# Altium integrated library TI Logic Latch.IntLib: 771 symbols (part 14 of 18)
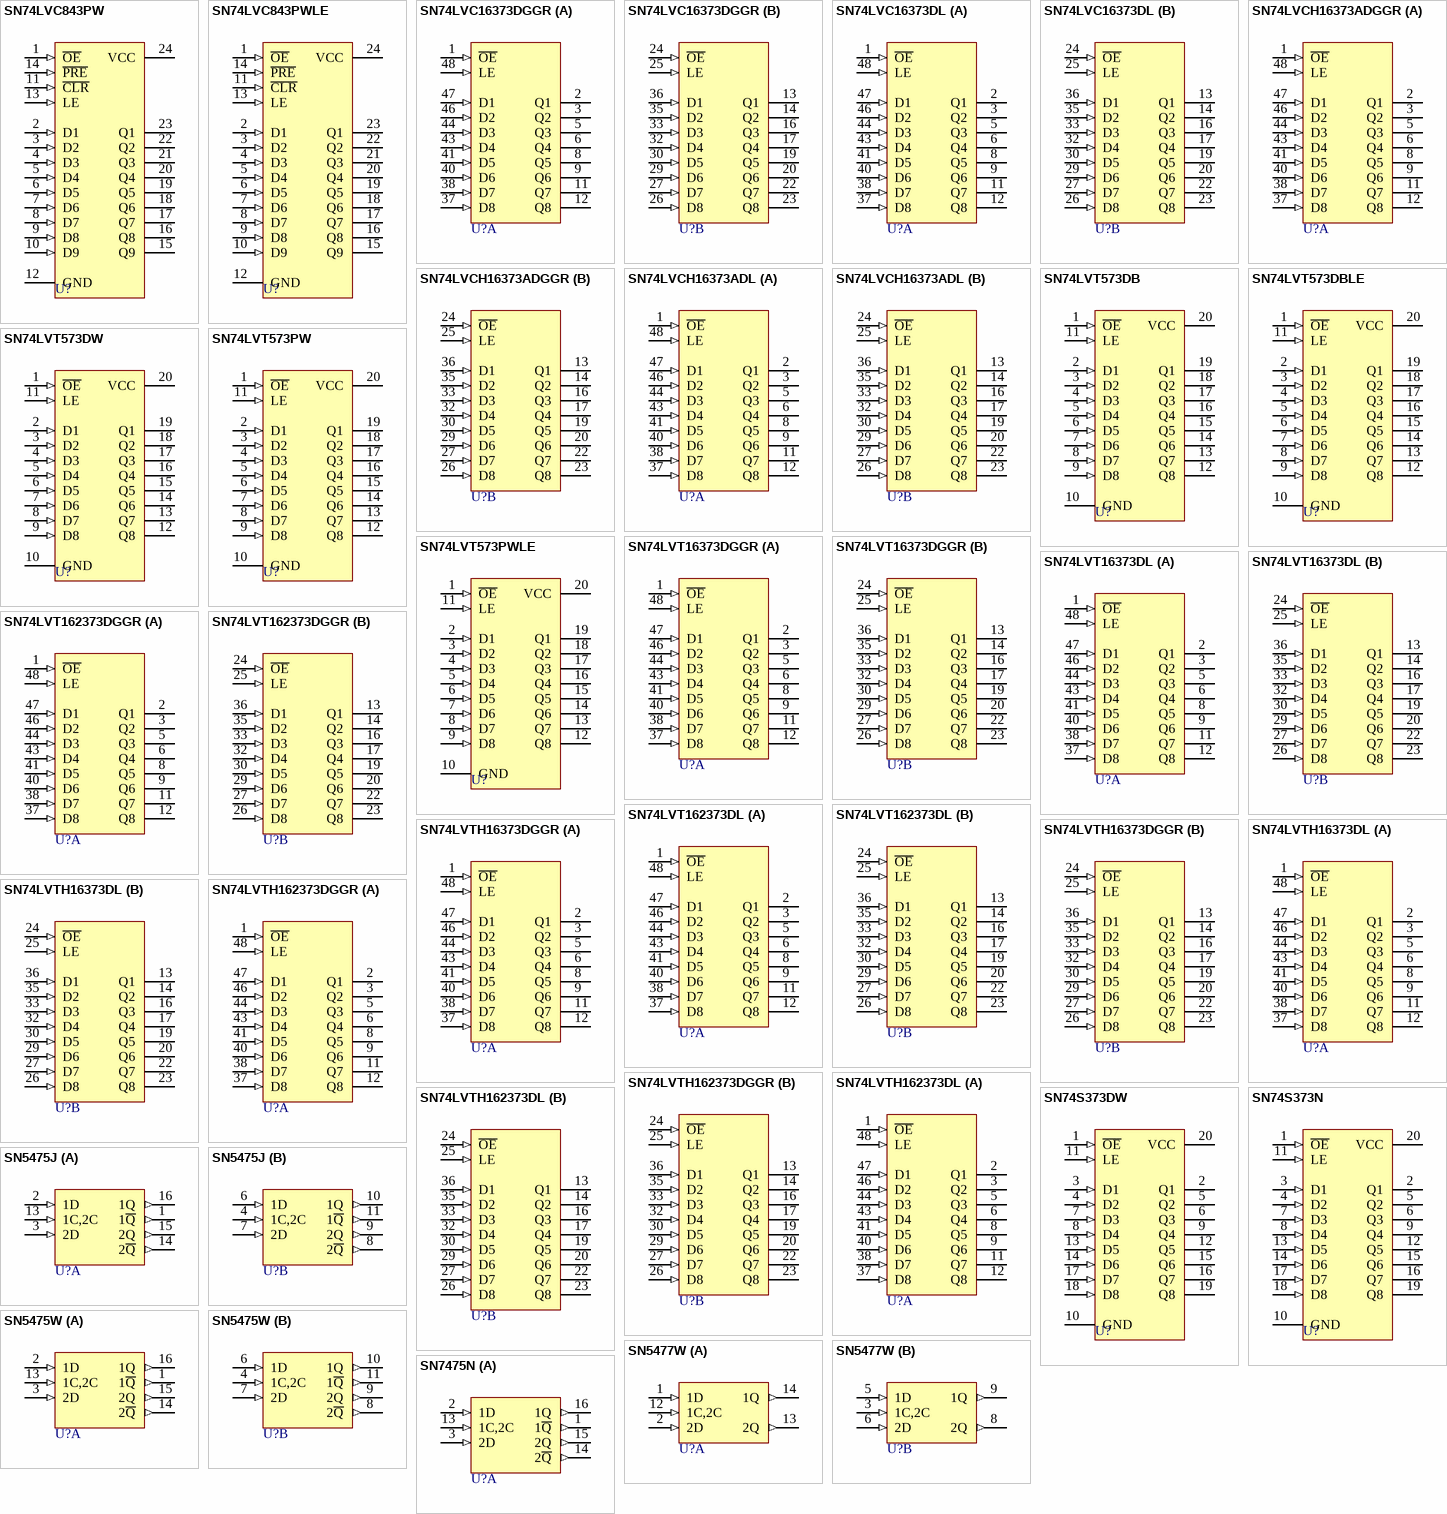
[diagram p39: symbols SN74LVC843PW to SN7475N]

## SN74S373DW
designator U?
Octal D-Type Transparent Latches and Edge-Triggered Flip-Flops; Published: 8-Jun-2000; LatestRevisionDate: 13-Apr-2006; LatestRevisionNote: IPC-7351 Footprint Added.; DatasheetVersion: Mar-1988; PackageVersion: Mar-2000; PackageReference: DW020; Publisher: Altium Limited; PackageDescription: 20-Pin Plastic Small Outline Integrated Circuit 1.27 mm Pitch; Code_JEDEC: MS-013; Code_IPC: SOIC127P1030-20; ComponentLink1Description: Manufacturer Link; ComponentLink1URL: http://www.ti.com/; ComponentLink2Description: Datasheet; ComponentLink2URL: http://www-s.ti.com/sc/ds/sn74s373.pdf
footprint DW020_N (SOIC, 20-Leads, Body 12.8x7.5mm, Pitch 1.27mm, IPC Medium Density)
footprint DW020_L (SOIC, 20-Leads, Body 12.8x7.5mm, Pitch 1.27mm, IPC High Density)
footprint DW020_M (SOIC, 20-Leads, Body 12.8x7.5mm, Pitch 1.27mm, IPC Low Density)
3D model DW020 (20-Pin Plastic Small Outline Integrated Circuit 1.27 mm Pitch)
signal-integrity model SN74S373DW
pins: 1 ~{OE} (in), 2 Q1 (hiz), 3 D1 (in), 4 D2 (in), 5 Q2 (hiz), 6 Q3 (hiz), 7 D3 (in), 8 D4 (in), 9 Q4 (hiz), 10 GND (power), 11 LE (in), 12 Q5 (hiz), 13 D5 (in), 14 D6 (in), 15 Q6 (hiz), 16 Q7 (hiz), 17 D7 (in), 18 D8 (in), 19 Q8 (hiz), 20 VCC (power)

## SN74S373N
designator U?
Octal D-Type Transparent Latches and Edge-Triggered Flip-Flops; Published: 8-Jun-2000; LatestRevisionDate: 04-Mar-2005; LatestRevisionNote: Stylized 3D Model Added.; DatasheetVersion: Mar-1988; PackageVersion: Oct-1995; PackageReference: N020; Publisher: Altium Limited; PackageDescription: DIP; 20 Leads; Row Spacing 7.62 mm; Pitch 2.54 mm; ComponentLink1Description: Manufacturer Link; ComponentLink1URL: http://www.ti.com/; ComponentLink2Description: Datasheet; ComponentLink2URL: http://www-s.ti.com/sc/ds/sn74s373.pdf
footprint N020 (DIP; 20 Leads; Row Spacing 7.62 mm; Pitch 2.54 mm)
3D model J020 (DIP; 20 Leads; Row Spacing 7.62 mm; Pitch 2.54 mm)
signal-integrity model SN74S373N
pins: 1 ~{OE} (in), 2 Q1 (hiz), 3 D1 (in), 4 D2 (in), 5 Q2 (hiz), 6 Q3 (hiz), 7 D3 (in), 8 D4 (in), 9 Q4 (hiz), 10 GND (power), 11 LE (in), 12 Q5 (hiz), 13 D5 (in), 14 D6 (in), 15 Q6 (hiz), 16 Q7 (hiz), 17 D7 (in), 18 D8 (in), 19 Q8 (hiz), 20 VCC (power)

## SN5475J
designator U?
4-Bit Bistable Latches; Published: 8-Jun-2000; LatestRevisionDate: 04-Mar-2005; LatestRevisionNote: Stylized 3D Model Added.; DatasheetVersion: Mar-1988; PackageVersion: Jun-1999; PackageReference: J016; Publisher: Altium Limited; PackageDescription: DIP; 16 Leads; Row Spacing 7.62 mm; Pitch 2.54 mm; ComponentLink1Description: Manufacturer Link; ComponentLink1URL: http://www.ti.com/; ComponentLink2Description: Datasheet; ComponentLink2URL: http://www-s.ti.com/sc/ds/sn54ls75.pdf
footprint J016 (DIP; 16 Leads; Row Spacing 7.62 mm; Pitch 2.54 mm)
3D model J016 (DIP; 16 Leads; Row Spacing 7.62 mm; Pitch 2.54 mm)
signal-integrity model SN5475J
pins on every part: 5 VCC (power) hidden to VCC, 12 GND (power) hidden to GND
part A pins: 1 1~{Q} (out), 2 1D (in), 3 2D (in), 13 1C,2C (in), 14 2~{Q} (out), 15 2Q (out), 16 1Q (out)
part B pins: 4 1C,2C (in), 6 1D (in), 7 2D (in), 8 2~{Q} (out), 9 2Q (out), 10 1Q (out), 11 1~{Q} (out)

## SN5475W
designator U?
4-Bit Bistable Latches; Published: 8-Jun-2000; LatestRevisionDate: 04-Mar-2005; LatestRevisionNote: Stylized 3D Model Added.; DatasheetVersion: Mar-1988; PackageVersion: Jan-1995; PackageReference: W016; Publisher: Altium Limited; PackageDescription: DFP; 16 Leads; Body 10.9 x 7.2 mm (LxW max); Pitch 1.27 mm; Code_JEDEC: MO-092-AC; ComponentLink1Description: Manufacturer Link; ComponentLink1URL: http://www.ti.com/; ComponentLink2Description: Datasheet; ComponentLink2URL: http://www-s.ti.com/sc/ds/sn54ls75.pdf
footprint W016 (DFP; 16 Leads; Body 10.9 x 7.2 mm (LxW max); Pitch 1.27 mm)
3D model W016 (DFP; 16 Leads; Body 10.9 x 7.2 mm (LxW max); Pitch 1.27 mm)
signal-integrity model SN5475W
pins on every part: 5 VCC (power) hidden to VCC, 12 GND (power) hidden to GND
part A pins: 1 1~{Q} (out), 2 1D (in), 3 2D (in), 13 1C,2C (in), 14 2~{Q} (out), 15 2Q (out), 16 1Q (out)
part B pins: 4 1C,2C (in), 6 1D (in), 7 2D (in), 8 2~{Q} (out), 9 2Q (out), 10 1Q (out), 11 1~{Q} (out)

## SN5477W
designator U?
4-Bit Bistable Latches; Note: Pins No 7 and 10 are Not Connected; Published: 8-Jun-2000; LatestRevisionDate: 04-Mar-2005; LatestRevisionNote: Stylized 3D Model Added.; DatasheetVersion: Mar-1988; PackageVersion: Jan-1995; PackageReference: W014; Publisher: Altium Limited; PackageDescription: DFP; 14 Leads; Body 9.9 x 6.6 mm (LxW max); Pitch 1.27 mm; Code_JEDEC: MO-092-AB; ComponentLink1Description: Manufacturer Link; ComponentLink1URL: http://www.ti.com/; ComponentLink2Description: Datasheet; ComponentLink2URL: http://www-s.ti.com/sc/ds/sn54ls75.pdf
footprint W014 (DFP; 14 Leads; Body 9.9 x 6.6 mm (LxW max); Pitch 1.27 mm)
3D model W014 (DFP; 14 Leads; Body 9.9 x 6.6 mm (LxW max); Pitch 1.27 mm)
signal-integrity model SN5477W
pins on every part: 4 VCC (power) hidden to VCC, 11 GND (power) hidden to GND
part A pins: 1 1D (in), 2 2D (in), 12 1C,2C (in), 13 2Q (out), 14 1Q (out)
part B pins: 3 1C,2C (in), 5 1D (in), 6 2D (in), 8 2Q (out), 9 1Q (out)

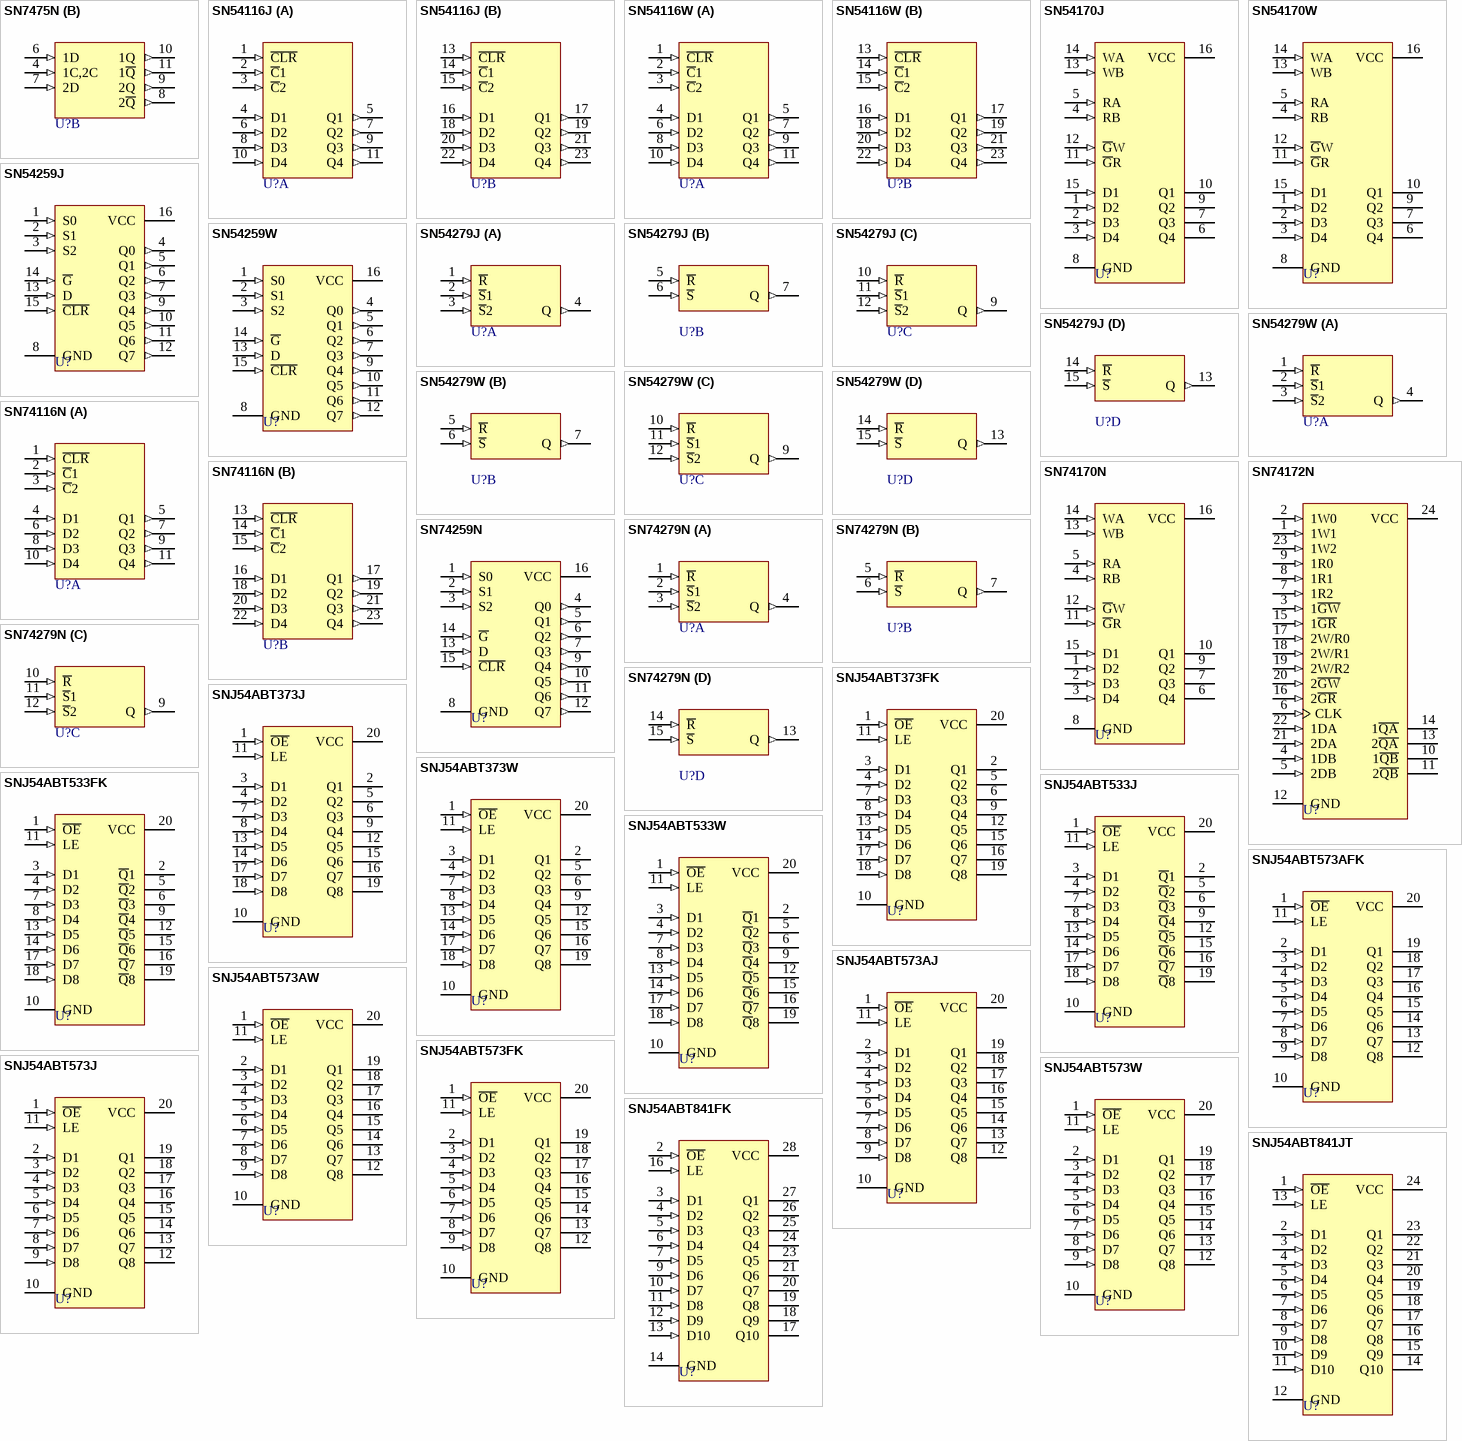
[diagram p20: symbols SN7475N to SNJ54ABT841JT]

## SN7475N
designator U?
4-Bit Bistable Latches; Published: 8-Jun-2000; LatestRevisionDate: 04-Mar-2005; LatestRevisionNote: Stylized 3D Model Added.; DatasheetVersion: Mar-1988; PackageVersion: Oct-1995; PackageReference: N016; Publisher: Altium Limited; PackageDescription: DIP; 16 Leads; Row Spacing 7.62 mm; Pitch 2.54 mm; Code_JEDEC: MS-001-BB; ComponentLink1Description: Manufacturer Link; ComponentLink1URL: http://www.ti.com/; ComponentLink2Description: Datasheet; ComponentLink2URL: http://www-s.ti.com/sc/ds/sn54ls75.pdf
footprint N016 (DIP; 16 Leads; Row Spacing 7.62 mm; Pitch 2.54 mm)
3D model N016 (DIP; 16 Leads; Row Spacing 7.62 mm; Pitch 2.54 mm)
signal-integrity model SN7475N
pins on every part: 5 VCC (power) hidden to VCC, 12 GND (power) hidden to GND
part A pins: 1 1~{Q} (out), 2 1D (in), 3 2D (in), 13 1C,2C (in), 14 2~{Q} (out), 15 2Q (out), 16 1Q (out)
part B pins: 4 1C,2C (in), 6 1D (in), 7 2D (in), 8 2~{Q} (out), 9 2Q (out), 10 1Q (out), 11 1~{Q} (out)

## SN54116J
designator U?
Dual 4-Bit Latches with Clear; Published: 8-Jun-2000; LatestRevisionDate: 04-Mar-2005; LatestRevisionNote: Stylized 3D Model Added.; DatasheetVersion: Mar-1988; PackageVersion: Nov-1997; PackageReference: J024; Publisher: Altium Limited; PackageDescription: DIP; 24 Leads; Row Spacing 15.24 mm; Pitch 2.54 mm; ComponentLink1Description: Manufacturer Link; ComponentLink1URL: http://www.ti.com/; ComponentLink2Description: Datasheet; ComponentLink2URL: http://www-s.ti.com/sc/ds/sn74116.pdf
footprint J024 (DIP; 24 Leads; Row Spacing 15.24 mm; Pitch 2.54 mm)
3D model J024 (DIP; 24 Leads; Row Spacing 15.24 mm; Pitch 2.54 mm)
signal-integrity model SN54116J
pins on every part: 12 GND (power) hidden to GND, 24 VCC (power) hidden to VCC
part A pins: 1 ~{CLR} (in), 2 ~{C}1 (in), 3 ~{C}2 (in), 4 D1 (in), 5 Q1 (out), 6 D2 (in), 7 Q2 (out), 8 D3 (in), 9 Q3 (out), 10 D4 (in), 11 Q4 (out)
part B pins: 13 ~{CLR} (in), 14 ~{C}1 (in), 15 ~{C}2 (in), 16 D1 (in), 17 Q1 (out), 18 D2 (in), 19 Q2 (out), 20 D3 (in), 21 Q3 (out), 22 D4 (in), 23 Q4 (out)

## SN54116W
designator U?
Dual 4-Bit Latches with Clear; Published: 8-Jun-2000; LatestRevisionDate: 04-Mar-2005; LatestRevisionNote: Stylized 3D Model Added.; DatasheetVersion: Mar-1988; PackageVersion: Oct-1994; PackageReference: W024; Publisher: Altium Limited; PackageDescription: DFP; 24 Leads; Body 16.3 x 9.5 mm (LxW max); Pitch 1.27 mm; Code_JEDEC: MO-070-AD; ComponentLink1Description: Manufacturer Link; ComponentLink1URL: http://www.ti.com/; ComponentLink2Description: Datasheet; ComponentLink2URL: http://www-s.ti.com/sc/ds/sn74116.pdf
footprint W024 (DFP; 24 Leads; Body 16.3 x 9.5 mm (LxW max); Pitch 1.27 mm)
3D model W024 (DFP; 24 Leads; Body 16.3 x 9.5 mm (LxW max); Pitch 1.27 mm)
signal-integrity model SN54116W
pins on every part: 12 GND (power) hidden to GND, 24 VCC (power) hidden to VCC
part A pins: 1 ~{CLR} (in), 2 ~{C}1 (in), 3 ~{C}2 (in), 4 D1 (in), 5 Q1 (out), 6 D2 (in), 7 Q2 (out), 8 D3 (in), 9 Q3 (out), 10 D4 (in), 11 Q4 (out)
part B pins: 13 ~{CLR} (in), 14 ~{C}1 (in), 15 ~{C}2 (in), 16 D1 (in), 17 Q1 (out), 18 D2 (in), 19 Q2 (out), 20 D3 (in), 21 Q3 (out), 22 D4 (in), 23 Q4 (out)

## SN54170J
designator U?
4-By-4 Rigister Files with Open-Collector Outputs; Published: 8-Jun-2000; LatestRevisionDate: 04-Mar-2005; LatestRevisionNote: Stylized 3D Model Added.; DatasheetVersion: Mar-1988; PackageVersion: Jun-1999; PackageReference: J016; Publisher: Altium Limited; PackageDescription: DIP; 16 Leads; Row Spacing 7.62 mm; Pitch 2.54 mm; ComponentLink1Description: Manufacturer Link; ComponentLink1URL: http://www.ti.com/; ComponentLink2Description: Datasheet; ComponentLink2URL: http://www-s.ti.com/sc/ds/sn54ls170.pdf
footprint J016 (DIP; 16 Leads; Row Spacing 7.62 mm; Pitch 2.54 mm)
3D model J016 (DIP; 16 Leads; Row Spacing 7.62 mm; Pitch 2.54 mm)
signal-integrity model SN54170J
pins: 1 D2 (in), 2 D3 (in), 3 D4 (in), 4 RB (in), 5 RA (in), 6 Q4 (oc), 7 Q3 (oc), 8 GND (power), 9 Q2 (oc), 10 Q1 (oc), 11 ~{G}R (in), 12 ~{G}W (in), 13 WB (in), 14 WA (in), 15 D1 (in), 16 VCC (power)

## SN54170W
designator U?
4-By-4 Rigister Files with Open-Collector Outputs; Published: 8-Jun-2000; LatestRevisionDate: 04-Mar-2005; LatestRevisionNote: Stylized 3D Model Added.; DatasheetVersion: Mar-1988; PackageVersion: Jan-1995; PackageReference: W016; Publisher: Altium Limited; PackageDescription: DFP; 16 Leads; Body 10.9 x 7.2 mm (LxW max); Pitch 1.27 mm; Code_JEDEC: MO-092-AC; ComponentLink1Description: Manufacturer Link; ComponentLink1URL: http://www.ti.com/; ComponentLink2Description: Datasheet; ComponentLink2URL: http://www-s.ti.com/sc/ds/sn54ls170.pdf
footprint W016 (DFP; 16 Leads; Body 10.9 x 7.2 mm (LxW max); Pitch 1.27 mm)
3D model W016 (DFP; 16 Leads; Body 10.9 x 7.2 mm (LxW max); Pitch 1.27 mm)
signal-integrity model SN54170W
pins: 1 D2 (in), 2 D3 (in), 3 D4 (in), 4 RB (in), 5 RA (in), 6 Q4 (oc), 7 Q3 (oc), 8 GND (power), 9 Q2 (oc), 10 Q1 (oc), 11 ~{G}R (in), 12 ~{G}W (in), 13 WB (in), 14 WA (in), 15 D1 (in), 16 VCC (power)

## SN54259J
designator U?
8-Bit Addressable Latch; Published: 8-Jun-2000; LatestRevisionDate: 04-Mar-2005; LatestRevisionNote: Stylized 3D Model Added.; DatasheetVersion: Mar-1988; PackageVersion: Jun-1999; PackageReference: J016; Publisher: Altium Limited; PackageDescription: DIP; 16 Leads; Row Spacing 7.62 mm; Pitch 2.54 mm; ComponentLink1Description: Manufacturer Link; ComponentLink1URL: http://www.ti.com/; ComponentLink2Description: Datasheet; ComponentLink2URL: http://www-s.ti.com/sc/ds/sn74259.pdf
footprint J016 (DIP; 16 Leads; Row Spacing 7.62 mm; Pitch 2.54 mm)
3D model J016 (DIP; 16 Leads; Row Spacing 7.62 mm; Pitch 2.54 mm)
signal-integrity model SN54259J
pins: 1 S0 (in), 2 S1 (in), 3 S2 (in), 4 Q0 (out), 5 Q1 (out), 6 Q2 (out), 7 Q3 (out), 8 GND (power), 9 Q4 (out), 10 Q5 (out), 11 Q6 (out), 12 Q7 (out), 13 D (in), 14 ~{G} (in), 15 ~{CLR} (in), 16 VCC (power)

## SN54259W
designator U?
8-Bit Addressable Latch; Published: 8-Jun-2000; LatestRevisionDate: 04-Mar-2005; LatestRevisionNote: Stylized 3D Model Added.; DatasheetVersion: Mar-1988; PackageVersion: Jan-1995; PackageReference: W016; Publisher: Altium Limited; PackageDescription: DFP; 16 Leads; Body 10.9 x 7.2 mm (LxW max); Pitch 1.27 mm; Code_JEDEC: MO-092-AC; ComponentLink1Description: Manufacturer Link; ComponentLink1URL: http://www.ti.com/; ComponentLink2Description: Datasheet; ComponentLink2URL: http://www-s.ti.com/sc/ds/sn74259.pdf
footprint W016 (DFP; 16 Leads; Body 10.9 x 7.2 mm (LxW max); Pitch 1.27 mm)
3D model W016 (DFP; 16 Leads; Body 10.9 x 7.2 mm (LxW max); Pitch 1.27 mm)
signal-integrity model SN54259W
pins: 1 S0 (in), 2 S1 (in), 3 S2 (in), 4 Q0 (out), 5 Q1 (out), 6 Q2 (out), 7 Q3 (out), 8 GND (power), 9 Q4 (out), 10 Q5 (out), 11 Q6 (out), 12 Q7 (out), 13 D (in), 14 ~{G} (in), 15 ~{CLR} (in), 16 VCC (power)

## SN54279J
designator U?
Quadruple S-R Latches; ComponentAvailability: Obsolete; Published: 8-Jun-2000; LatestRevisionDate: 04-Mar-2005; LatestRevisionNote: Stylized 3D Model Added.; DatasheetVersion: Mar-1988; PackageVersion: Jun-1999; PackageReference: J016; Publisher: Altium Limited; PackageDescription: DIP; 16 Leads; Row Spacing 7.62 mm; Pitch 2.54 mm; ComponentLink1Description: Manufacturer Link; ComponentLink1URL: http://www.ti.com/; ComponentLink2Description: Datasheet; ComponentLink2URL: http://www-s.ti.com/sc/ds/sn54279.pdf
footprint J016 (DIP; 16 Leads; Row Spacing 7.62 mm; Pitch 2.54 mm)
3D model J016 (DIP; 16 Leads; Row Spacing 7.62 mm; Pitch 2.54 mm)
signal-integrity model SN54279J
pins on every part: 8 GND (power) hidden to GND, 16 VCC (power) hidden to VCC
part A pins: 1 ~{R} (in), 2 ~{S}1 (in), 3 ~{S}2 (in), 4 Q (out)
part B pins: 5 ~{R} (in), 6 ~{S} (in), 7 Q (out)
part C pins: 9 Q (out), 10 ~{R} (in), 11 ~{S}1 (in), 12 ~{S}2 (in)
part D pins: 13 Q (out), 14 ~{R} (in), 15 ~{S} (in)

## SN54279W
designator U?
Quadruple S-R Latches; Published: 8-Jun-2000; LatestRevisionDate: 04-Mar-2005; LatestRevisionNote: Stylized 3D Model Added.; DatasheetVersion: Mar-1988; PackageVersion: Jan-1995; PackageReference: W016; Publisher: Altium Limited; PackageDescription: DFP; 16 Leads; Body 10.9 x 7.2 mm (LxW max); Pitch 1.27 mm; Code_JEDEC: MO-092-AC; ComponentLink1Description: Manufacturer Link; ComponentLink1URL: http://www.ti.com/; ComponentLink2Description: Datasheet; ComponentLink2URL: http://www-s.ti.com/sc/ds/sn54279.pdf
footprint W016 (DFP; 16 Leads; Body 10.9 x 7.2 mm (LxW max); Pitch 1.27 mm)
3D model W016 (DFP; 16 Leads; Body 10.9 x 7.2 mm (LxW max); Pitch 1.27 mm)
signal-integrity model SN54279W
pins on every part: 8 GND (power) hidden to GND, 16 VCC (power) hidden to VCC
part A pins: 1 ~{R} (in), 2 ~{S}1 (in), 3 ~{S}2 (in), 4 Q (out)
part B pins: 5 ~{R} (in), 6 ~{S} (in), 7 Q (out)
part C pins: 9 Q (out), 10 ~{R} (in), 11 ~{S}1 (in), 12 ~{S}2 (in)
part D pins: 13 Q (out), 14 ~{R} (in), 15 ~{S} (in)

## SN74116N
designator U?
Dual 4-Bit Latches with Clear; ComponentAvailability: Obsolete; Published: 8-Jun-2000; LatestRevisionDate: 04-Mar-2005; LatestRevisionNote: Stylized 3D Model Added.; DatasheetVersion: Mar-1988; PackageVersion: Oct-1994; PackageReference: N024; Publisher: Altium Limited; PackageDescription: DIP; 24 Leads; Row Spacing 15.24 mm; Pitch 2.54 mm; ComponentLink1Description: Manufacturer Link; ComponentLink1URL: http://www.ti.com/; ComponentLink2Description: Datasheet; ComponentLink2URL: http://www-s.ti.com/sc/ds/sn74116.pdf; ComponentLink3Description: Discontinuation Notice; ComponentLink3URL: http://focus.ti.com/docs/prod/folders/print/sn74116.html
footprint N024 (DIP; 24 Leads; Row Spacing 15.24 mm; Pitch 2.54 mm)
3D model J024 (DIP; 24 Leads; Row Spacing 15.24 mm; Pitch 2.54 mm)
signal-integrity model SN74116N
pins on every part: 12 GND (power) hidden to GND, 24 VCC (power) hidden to VCC
part A pins: 1 ~{CLR} (in), 2 ~{C}1 (in), 3 ~{C}2 (in), 4 D1 (in), 5 Q1 (out), 6 D2 (in), 7 Q2 (out), 8 D3 (in), 9 Q3 (out), 10 D4 (in), 11 Q4 (out)
part B pins: 13 ~{CLR} (in), 14 ~{C}1 (in), 15 ~{C}2 (in), 16 D1 (in), 17 Q1 (out), 18 D2 (in), 19 Q2 (out), 20 D3 (in), 21 Q3 (out), 22 D4 (in), 23 Q4 (out)

## SN74170N
designator U?
4-By-4 Register Files with Open-Collector Outputs; ComponentAvailability: Obsolete; Published: 8-Jun-2000; LatestRevisionDate: 04-Mar-2005; LatestRevisionNote: Stylized 3D Model Added.; DatasheetVersion: Mar-1988; PackageVersion: Oct-1995; PackageReference: N016; Publisher: Altium Limited; PackageDescription: DIP; 16 Leads; Row Spacing 7.62 mm; Pitch 2.54 mm; Code_JEDEC: MS-001-BB; ComponentLink1Description: Manufacturer Link; ComponentLink1URL: http://www.ti.com/; ComponentLink2Description: Datasheet; ComponentLink2URL: http://www-s.ti.com/sc/ds/sn54ls170.pdf
footprint N016 (DIP; 16 Leads; Row Spacing 7.62 mm; Pitch 2.54 mm)
3D model N016 (DIP; 16 Leads; Row Spacing 7.62 mm; Pitch 2.54 mm)
signal-integrity model SN74170N
pins: 1 D2 (in), 2 D3 (in), 3 D4 (in), 4 RB (in), 5 RA (in), 6 Q4 (oc), 7 Q3 (oc), 8 GND (power), 9 Q2 (oc), 10 Q1 (oc), 11 ~{G}R (in), 12 ~{G}W (in), 13 WB (in), 14 WA (in), 15 D1 (in), 16 VCC (power)

## SN74172N
designator U?
16-Bit Multiple-Port Register File with 3-State Outputs; ComponentAvailability: Obsolete; Published: 8-Jun-2000; LatestRevisionDate: 04-Mar-2005; LatestRevisionNote: Stylized 3D Model Added.; DatasheetVersion: Mar-1988; PackageVersion: Oct-1994; PackageReference: N024C; Publisher: Altium Limited; PackageDescription: DIP; 24 Leads; Row Spacing 15.24 mm; Pitch 2.54 mm; ComponentLink1Description: Manufacturer Link; ComponentLink1URL: http://www.ti.com/; ComponentLink2Description: Datasheet; ComponentLink2URL: http://www-s.ti.com/sc/ds/sn74172.pdf; ComponentLink3Description: Discontinuation Notice; ComponentLink3URL: http://focus.ti.com/docs/prod/folders/print/sn74172.html
footprint N024C (DIP; 24 Leads; Row Spacing 15.24 mm; Pitch 2.54 mm)
3D model J024 (DIP; 24 Leads; Row Spacing 15.24 mm; Pitch 2.54 mm)
signal-integrity model SN74172N
pins: 1 1W1 (in), 2 1W0 (in), 3 1~{GW} (in), 4 1DB (in), 5 2DB (in), 6 CLK (in), 7 1R2 (in), 8 1R1 (in), 9 1R0 (in), 10 1~{QB} (hiz), 11 2~{QB} (hiz), 12 GND (power), 13 2~{QA} (hiz), 14 1~{QA} (hiz), 15 1~{GR} (in), 16 2~{GR} (in), 17 2W/R0 (in), 18 2W/R1 (in), 19 2W/R2 (in), 20 2~{GW} (in), 21 2DA (in), 22 1DA (in), 23 1W2 (in), 24 VCC (power)

## SN74259N
designator U?
8-Bit Addressable Latch; ComponentAvailability: Obsolete; Published: 8-Jun-2000; LatestRevisionDate: 04-Mar-2005; LatestRevisionNote: Stylized 3D Model Added.; DatasheetVersion: Mar-1988; PackageVersion: Oct-1995; PackageReference: N016; Publisher: Altium Limited; PackageDescription: DIP; 16 Leads; Row Spacing 7.62 mm; Pitch 2.54 mm; Code_JEDEC: MS-001-BB; ComponentLink1Description: Manufacturer Link; ComponentLink1URL: http://www.ti.com/; ComponentLink2Description: Datasheet; ComponentLink2URL: http://www-s.ti.com/sc/ds/sn74259.pdf; ComponentLink3Description: Discontinuation Notice; ComponentLink3URL: http://focus.ti.com/docs/prod/folders/print/sn74259.html
footprint N016 (DIP; 16 Leads; Row Spacing 7.62 mm; Pitch 2.54 mm)
3D model N016 (DIP; 16 Leads; Row Spacing 7.62 mm; Pitch 2.54 mm)
signal-integrity model SN74259N
pins: 1 S0 (in), 2 S1 (in), 3 S2 (in), 4 Q0 (out), 5 Q1 (out), 6 Q2 (out), 7 Q3 (out), 8 GND (power), 9 Q4 (out), 10 Q5 (out), 11 Q6 (out), 12 Q7 (out), 13 D (in), 14 ~{G} (in), 15 ~{CLR} (in), 16 VCC (power)

## SN74279N
designator U?
Quadruple S-R Latches; ComponentAvailability: Obsolete; Published: 8-Jun-2000; LatestRevisionDate: 04-Mar-2005; LatestRevisionNote: Stylized 3D Model Added.; DatasheetVersion: Mar-1988; PackageVersion: Oct-1995; PackageReference: N016; Publisher: Altium Limited; PackageDescription: DIP; 16 Leads; Row Spacing 7.62 mm; Pitch 2.54 mm; Code_JEDEC: MS-001-BB; ComponentLink1Description: Manufacturer Link; ComponentLink1URL: http://www.ti.com/; ComponentLink2Description: Datasheet; ComponentLink2URL: http://www-s.ti.com/sc/ds/sn54279.pdf
footprint N016 (DIP; 16 Leads; Row Spacing 7.62 mm; Pitch 2.54 mm)
3D model N016 (DIP; 16 Leads; Row Spacing 7.62 mm; Pitch 2.54 mm)
signal-integrity model SN74279N
pins on every part: 8 GND (power) hidden to GND, 16 VCC (power) hidden to VCC
part A pins: 1 ~{R} (in), 2 ~{S}1 (in), 3 ~{S}2 (in), 4 Q (out)
part B pins: 5 ~{R} (in), 6 ~{S} (in), 7 Q (out)
part C pins: 9 Q (out), 10 ~{R} (in), 11 ~{S}1 (in), 12 ~{S}2 (in)
part D pins: 13 Q (out), 14 ~{R} (in), 15 ~{S} (in)

## SNJ54ABT373FK
designator U?
Octal Transparent D-Type Latches with 3-State Outputs; Published: 8-Jun-2000; LatestRevisionDate: 17-Jul-2002; LatestRevisionNote: Re-released for DXP Platform.; DatasheetVersion: May-1997; PackageVersion: 1998; PackageReference: FK020; Publisher: Altium Limited; PackageDescription: Leadless Chip Carrier; 20 Terminals; Body 8.9 x 8.9 mm; ComponentLink1Description: Manufacturer Link; ComponentLink1URL: http://www.ti.com/; ComponentLink2Description: Datasheet; ComponentLink2URL: http://www-s.ti.com/sc/ds/sn74abt373.pdf
footprint FK020 (Leadless Chip Carrier; 20 Terminals; Body 8.9 x 8.9 mm)
signal-integrity model SNJ54ABT373FK
pins: 1 ~{OE} (in), 2 Q1 (hiz), 3 D1 (in), 4 D2 (in), 5 Q2 (hiz), 6 Q3 (hiz), 7 D3 (in), 8 D4 (in), 9 Q4 (hiz), 10 GND (power), 11 LE (in), 12 Q5 (hiz), 13 D5 (in), 14 D6 (in), 15 Q6 (hiz), 16 Q7 (hiz), 17 D7 (in), 18 D8 (in), 19 Q8 (hiz), 20 VCC (power)

## SNJ54ABT373J
designator U?
Octal Transparent D-Type Latches with 3-State Outputs; Published: 8-Jun-2000; LatestRevisionDate: 04-Mar-2005; LatestRevisionNote: Stylized 3D Model Added.; DatasheetVersion: May-1997; PackageVersion: Jun-1999; PackageReference: J020; Publisher: Altium Limited; PackageDescription: DIP; 20 Leads; Row Spacing 7.62 mm; Pitch 2.54 mm; ComponentLink1Description: Manufacturer Link; ComponentLink1URL: http://www.ti.com/; ComponentLink2Description: Datasheet; ComponentLink2URL: http://www-s.ti.com/sc/ds/sn74abt373.pdf
footprint J020 (DIP; 20 Leads; Row Spacing 7.62 mm; Pitch 2.54 mm)
3D model J020 (DIP; 20 Leads; Row Spacing 7.62 mm; Pitch 2.54 mm)
signal-integrity model SNJ54ABT373J
pins: 1 ~{OE} (in), 2 Q1 (hiz), 3 D1 (in), 4 D2 (in), 5 Q2 (hiz), 6 Q3 (hiz), 7 D3 (in), 8 D4 (in), 9 Q4 (hiz), 10 GND (power), 11 LE (in), 12 Q5 (hiz), 13 D5 (in), 14 D6 (in), 15 Q6 (hiz), 16 Q7 (hiz), 17 D7 (in), 18 D8 (in), 19 Q8 (hiz), 20 VCC (power)

## SNJ54ABT373W
designator U?
Octal Transparent D-Type Latches with 3-State Outputs; Published: 8-Jun-2000; LatestRevisionDate: 04-Mar-2005; LatestRevisionNote: Stylized 3D Model Added.; DatasheetVersion: May-1997; PackageVersion: Jan-1995; PackageReference: W020; Publisher: Altium Limited; PackageDescription: DFP; 20 Leads; Body 13.7 x 7.6 mm (LxW max); Pitch 1.27 mm; ComponentLink1Description: Manufacturer Link; ComponentLink1URL: http://www.ti.com/; ComponentLink2Description: Datasheet; ComponentLink2URL: http://www-s.ti.com/sc/ds/sn74abt373.pdf
footprint W020 (DFP; 20 Leads; Body 13.7 x 7.6 mm (LxW max); Pitch 1.27 mm)
3D model W020 (DFP; 20 Leads; Body 13.7 x 7.6 mm (LxW max); Pitch 1.27 mm)
signal-integrity model SNJ54ABT373W
pins: 1 ~{OE} (in), 2 Q1 (hiz), 3 D1 (in), 4 D2 (in), 5 Q2 (hiz), 6 Q3 (hiz), 7 D3 (in), 8 D4 (in), 9 Q4 (hiz), 10 GND (power), 11 LE (in), 12 Q5 (hiz), 13 D5 (in), 14 D6 (in), 15 Q6 (hiz), 16 Q7 (hiz), 17 D7 (in), 18 D8 (in), 19 Q8 (hiz), 20 VCC (power)

## SNJ54ABT533FK
designator U?
Octal Transparent D-Type Latches with 3-State Outputs; Published: 8-Jun-2000; LatestRevisionDate: 17-Jul-2002; LatestRevisionNote: Re-released for DXP Platform.; DatasheetVersion: Jan-1997; PackageVersion: 1998; PackageReference: FK020; Publisher: Altium Limited; PackageDescription: Leadless Chip Carrier; 20 Terminals; Body 8.9 x 8.9 mm; ComponentLink1Description: Manufacturer Link; ComponentLink1URL: http://www.ti.com/; ComponentLink2Description: Datasheet; ComponentLink2URL: http://www-s.ti.com/sc/ds/sn74abt533a.pdf
footprint FK020 (Leadless Chip Carrier; 20 Terminals; Body 8.9 x 8.9 mm)
signal-integrity model SNJ54ABT533FK
pins: 1 ~{OE} (in), 2 ~{Q}1 (hiz), 3 D1 (in), 4 D2 (in), 5 ~{Q}2 (hiz), 6 ~{Q}3 (hiz), 7 D3 (in), 8 D4 (in), 9 ~{Q}4 (hiz), 10 GND (power), 11 LE (in), 12 ~{Q}5 (hiz), 13 D5 (in), 14 D6 (in), 15 ~{Q}6 (hiz), 16 ~{Q}7 (hiz), 17 D7 (in), 18 D8 (in), 19 ~{Q}8 (hiz), 20 VCC (power)

## SNJ54ABT533J
designator U?
Octal Transparent D-Type Latches with 3-State Outputs; Published: 8-Jun-2000; LatestRevisionDate: 04-Mar-2005; LatestRevisionNote: Stylized 3D Model Added.; DatasheetVersion: Jan-1997; PackageVersion: Jun-1999; PackageReference: J020; Publisher: Altium Limited; PackageDescription: DIP; 20 Leads; Row Spacing 7.62 mm; Pitch 2.54 mm; ComponentLink1Description: Manufacturer Link; ComponentLink1URL: http://www.ti.com/; ComponentLink2Description: Datasheet; ComponentLink2URL: http://www-s.ti.com/sc/ds/sn74abt533a.pdf
footprint J020 (DIP; 20 Leads; Row Spacing 7.62 mm; Pitch 2.54 mm)
3D model J020 (DIP; 20 Leads; Row Spacing 7.62 mm; Pitch 2.54 mm)
signal-integrity model SNJ54ABT533J
pins: 1 ~{OE} (in), 2 ~{Q}1 (hiz), 3 D1 (in), 4 D2 (in), 5 ~{Q}2 (hiz), 6 ~{Q}3 (hiz), 7 D3 (in), 8 D4 (in), 9 ~{Q}4 (hiz), 10 GND (power), 11 LE (in), 12 ~{Q}5 (hiz), 13 D5 (in), 14 D6 (in), 15 ~{Q}6 (hiz), 16 ~{Q}7 (hiz), 17 D7 (in), 18 D8 (in), 19 ~{Q}8 (hiz), 20 VCC (power)

## SNJ54ABT533W
designator U?
Octal Transparent D-Type Latches with 3-State Outputs; Published: 8-Jun-2000; LatestRevisionDate: 04-Mar-2005; LatestRevisionNote: Stylized 3D Model Added.; DatasheetVersion: Jan-1997; PackageVersion: Jan-1995; PackageReference: W020; Publisher: Altium Limited; PackageDescription: DFP; 20 Leads; Body 13.7 x 7.6 mm (LxW max); Pitch 1.27 mm; ComponentLink1Description: Manufacturer Link; ComponentLink1URL: http://www.ti.com/; ComponentLink2Description: Datasheet; ComponentLink2URL: http://www-s.ti.com/sc/ds/sn74abt533a.pdf
footprint W020 (DFP; 20 Leads; Body 13.7 x 7.6 mm (LxW max); Pitch 1.27 mm)
3D model W020 (DFP; 20 Leads; Body 13.7 x 7.6 mm (LxW max); Pitch 1.27 mm)
signal-integrity model SNJ54ABT533W
pins: 1 ~{OE} (in), 2 ~{Q}1 (hiz), 3 D1 (in), 4 D2 (in), 5 ~{Q}2 (hiz), 6 ~{Q}3 (hiz), 7 D3 (in), 8 D4 (in), 9 ~{Q}4 (hiz), 10 GND (power), 11 LE (in), 12 ~{Q}5 (hiz), 13 D5 (in), 14 D6 (in), 15 ~{Q}6 (hiz), 16 ~{Q}7 (hiz), 17 D7 (in), 18 D8 (in), 19 ~{Q}8 (hiz), 20 VCC (power)

## SNJ54ABT573AFK
designator U?
Octal Transparent D-Type Latch with 3-State Outputs; Published: 8-Jun-2000; LatestRevisionDate: 17-Jul-2002; LatestRevisionNote: Re-released for DXP Platform.; DatasheetVersion: Mar-1996; PackageVersion: 1998; PackageReference: FK020C; Publisher: Altium Limited; PackageDescription: Leadless Chip Carrier; 20 Terminals; Body 8.9 x 8.9 mm; ComponentLink1Description: Manufacturer Link; ComponentLink1URL: http://www.ti.com/
footprint FK020C (Leadless Chip Carrier; 20 Terminals; Body 8.9 x 8.9 mm)
signal-integrity model SNJ54ABT573AFK
pins: 1 ~{OE} (in), 2 D1 (in), 3 D2 (in), 4 D3 (in), 5 D4 (in), 6 D5 (in), 7 D6 (in), 8 D7 (in), 9 D8 (in), 10 GND (power), 11 LE (in), 12 Q8 (hiz), 13 Q7 (hiz), 14 Q6 (hiz), 15 Q5 (hiz), 16 Q4 (hiz), 17 Q3 (hiz), 18 Q2 (hiz), 19 Q1 (hiz), 20 VCC (power)

## SNJ54ABT573AJ
designator U?
Octal Transparent D-Type Latch with 3-State Outputs; Published: 8-Jun-2000; LatestRevisionDate: 04-Mar-2005; LatestRevisionNote: Stylized 3D Model Added.; DatasheetVersion: Mar-1996; PackageVersion: Jun-1999; PackageReference: J020C; Publisher: Altium Limited; PackageDescription: DIP; 20 Leads; Row Spacing 7.62 mm; Pitch 2.54 mm; ComponentLink1Description: Manufacturer Link; ComponentLink1URL: http://www.ti.com/
footprint J020C (DIP; 20 Leads; Row Spacing 7.62 mm; Pitch 2.54 mm)
3D model J020 (DIP; 20 Leads; Row Spacing 7.62 mm; Pitch 2.54 mm)
signal-integrity model SNJ54ABT573AJ
pins: 1 ~{OE} (in), 2 D1 (in), 3 D2 (in), 4 D3 (in), 5 D4 (in), 6 D5 (in), 7 D6 (in), 8 D7 (in), 9 D8 (in), 10 GND (power), 11 LE (in), 12 Q8 (hiz), 13 Q7 (hiz), 14 Q6 (hiz), 15 Q5 (hiz), 16 Q4 (hiz), 17 Q3 (hiz), 18 Q2 (hiz), 19 Q1 (hiz), 20 VCC (power)

## SNJ54ABT573AW
designator U?
Octal Transparent D-Type Latch with 3-State Outputs; Published: 8-Jun-2000; LatestRevisionDate: 04-Mar-2005; LatestRevisionNote: Stylized 3D Model Added.; DatasheetVersion: Mar-1996; PackageVersion: Jan-1995; PackageReference: W020; Publisher: Altium Limited; PackageDescription: DFP; 20 Leads; Body 13.7 x 7.6 mm (LxW max); Pitch 1.27 mm; ComponentLink1Description: Manufacturer Link; ComponentLink1URL: http://www.ti.com/
footprint W020 (DFP; 20 Leads; Body 13.7 x 7.6 mm (LxW max); Pitch 1.27 mm)
3D model W020 (DFP; 20 Leads; Body 13.7 x 7.6 mm (LxW max); Pitch 1.27 mm)
signal-integrity model SNJ54ABT573AW
pins: 1 ~{OE} (in), 2 D1 (in), 3 D2 (in), 4 D3 (in), 5 D4 (in), 6 D5 (in), 7 D6 (in), 8 D7 (in), 9 D8 (in), 10 GND (power), 11 LE (in), 12 Q8 (hiz), 13 Q7 (hiz), 14 Q6 (hiz), 15 Q5 (hiz), 16 Q4 (hiz), 17 Q3 (hiz), 18 Q2 (hiz), 19 Q1 (hiz), 20 VCC (power)

## SNJ54ABT573FK
designator U?
Octal Transparent D-Type Latches with 3-State Outputs; Published: 8-Jun-2000; LatestRevisionDate: 17-Jul-2002; LatestRevisionNote: Re-released for DXP Platform.; DatasheetVersion: Jan-1997; PackageVersion: 1998; PackageReference: FK020; Publisher: Altium Limited; PackageDescription: Leadless Chip Carrier; 20 Terminals; Body 8.9 x 8.9 mm; ComponentLink1Description: Manufacturer Link; ComponentLink1URL: http://www.ti.com/; ComponentLink2Description: Datasheet; ComponentLink2URL: http://www-s.ti.com/sc/ds/sn74abt573a.pdf
footprint FK020 (Leadless Chip Carrier; 20 Terminals; Body 8.9 x 8.9 mm)
signal-integrity model SNJ54ABT573FK
pins: 1 ~{OE} (in), 2 D1 (in), 3 D2 (in), 4 D3 (in), 5 D4 (in), 6 D5 (in), 7 D6 (in), 8 D7 (in), 9 D8 (in), 10 GND (power), 11 LE (in), 12 Q8 (hiz), 13 Q7 (hiz), 14 Q6 (hiz), 15 Q5 (hiz), 16 Q4 (hiz), 17 Q3 (hiz), 18 Q2 (hiz), 19 Q1 (hiz), 20 VCC (power)

## SNJ54ABT573J
designator U?
Octal Transparent D-Type Latches with 3-State Outputs; Published: 8-Jun-2000; LatestRevisionDate: 04-Mar-2005; LatestRevisionNote: Stylized 3D Model Added.; DatasheetVersion: Jan-1997; PackageVersion: Jun-1999; PackageReference: J020; Publisher: Altium Limited; PackageDescription: DIP; 20 Leads; Row Spacing 7.62 mm; Pitch 2.54 mm; ComponentLink1Description: Manufacturer Link; ComponentLink1URL: http://www.ti.com/; ComponentLink2Description: Datasheet; ComponentLink2URL: http://www-s.ti.com/sc/ds/sn74abt573a.pdf
footprint J020 (DIP; 20 Leads; Row Spacing 7.62 mm; Pitch 2.54 mm)
3D model J020 (DIP; 20 Leads; Row Spacing 7.62 mm; Pitch 2.54 mm)
signal-integrity model SNJ54ABT573J
pins: 1 ~{OE} (in), 2 D1 (in), 3 D2 (in), 4 D3 (in), 5 D4 (in), 6 D5 (in), 7 D6 (in), 8 D7 (in), 9 D8 (in), 10 GND (power), 11 LE (in), 12 Q8 (hiz), 13 Q7 (hiz), 14 Q6 (hiz), 15 Q5 (hiz), 16 Q4 (hiz), 17 Q3 (hiz), 18 Q2 (hiz), 19 Q1 (hiz), 20 VCC (power)

## SNJ54ABT573W
designator U?
Octal Transparent D-Type Latches with 3-State Outputs; Published: 8-Jun-2000; LatestRevisionDate: 04-Mar-2005; LatestRevisionNote: Stylized 3D Model Added.; DatasheetVersion: Jan-1997; PackageVersion: Jan-1995; PackageReference: W020; Publisher: Altium Limited; PackageDescription: DFP; 20 Leads; Body 13.7 x 7.6 mm (LxW max); Pitch 1.27 mm; ComponentLink1Description: Manufacturer Link; ComponentLink1URL: http://www.ti.com/; ComponentLink2Description: Datasheet; ComponentLink2URL: http://www-s.ti.com/sc/ds/sn74abt573a.pdf
footprint W020 (DFP; 20 Leads; Body 13.7 x 7.6 mm (LxW max); Pitch 1.27 mm)
3D model W020 (DFP; 20 Leads; Body 13.7 x 7.6 mm (LxW max); Pitch 1.27 mm)
signal-integrity model SNJ54ABT573W
pins: 1 ~{OE} (in), 2 D1 (in), 3 D2 (in), 4 D3 (in), 5 D4 (in), 6 D5 (in), 7 D6 (in), 8 D7 (in), 9 D8 (in), 10 GND (power), 11 LE (in), 12 Q8 (hiz), 13 Q7 (hiz), 14 Q6 (hiz), 15 Q5 (hiz), 16 Q4 (hiz), 17 Q3 (hiz), 18 Q2 (hiz), 19 Q1 (hiz), 20 VCC (power)

## SNJ54ABT841FK
designator U?
10-Bit Bus-Interface D-Type Latch with 3-State Outputs; Note: Pins No 1,8,15 and 22 are Not Connected; Published: 8-Jun-2000; LatestRevisionDate: 17-Jul-2002; LatestRevisionNote: Re-released for DXP Platform.; DatasheetVersion: May-1997; PackageVersion: 1998; PackageReference: FK028; Publisher: Altium Limited; PackageDescription: Leadless Chip Carrier; 28 Terminals; Body 11.4 x 11.4 mm; ComponentLink1Description: Manufacturer Link; ComponentLink1URL: http://www.ti.com/; ComponentLink2Description: Datasheet; ComponentLink2URL: http://www-s.ti.com/sc/ds/sn74abt841a.pdf
footprint FK028 (Leadless Chip Carrier; 28 Terminals; Body 11.4 x 11.4 mm)
signal-integrity model SNJ54ABT841FK
pins: 2 ~{OE} (in), 3 D1 (in), 4 D2 (in), 5 D3 (in), 6 D4 (in), 7 D5 (in), 9 D6 (in), 10 D7 (in), 11 D8 (in), 12 D9 (in), 13 D10 (in), 14 GND (power), 16 LE (in), 17 Q10 (hiz), 18 Q9 (hiz), 19 Q8 (hiz), 20 Q7 (hiz), 21 Q6 (hiz), 23 Q5 (hiz), 24 Q4 (hiz), 25 Q3 (hiz), 26 Q2 (hiz), 27 Q1 (hiz), 28 VCC (power)

## SNJ54ABT841JT
designator U?
10-Bit Bus-Interface D-Type Latch with 3-State Outputs; Published: 8-Jun-2000; LatestRevisionDate: 04-Mar-2005; LatestRevisionNote: Stylized 3D Model Added.; DatasheetVersion: May-1997; PackageVersion: Jan-1997; PackageReference: JT024; Publisher: Altium Limited; PackageDescription: DIP; 24 Leads; Row Spacing 7.62 mm; Pitch 2.54 mm; Code_JEDEC: MS-001-AF; ComponentLink1Description: Manufacturer Link; ComponentLink1URL: http://www.ti.com/; ComponentLink2Description: Datasheet; ComponentLink2URL: http://www-s.ti.com/sc/ds/sn74abt841a.pdf
footprint JT024 (DIP; 24 Leads; Row Spacing 7.62 mm; Pitch 2.54 mm)
3D model JT024 (DIP; 24 Leads; Row Spacing 7.62 mm; Pitch 2.54 mm)
signal-integrity model SNJ54ABT841JT
pins: 1 ~{OE} (in), 2 D1 (in), 3 D2 (in), 4 D3 (in), 5 D4 (in), 6 D5 (in), 7 D6 (in), 8 D7 (in), 9 D8 (in), 10 D9 (in), 11 D10 (in), 12 GND (power), 13 LE (in), 14 Q10 (hiz), 15 Q9 (hiz), 16 Q8 (hiz), 17 Q7 (hiz), 18 Q6 (hiz), 19 Q5 (hiz), 20 Q4 (hiz), 21 Q3 (hiz), 22 Q2 (hiz), 23 Q1 (hiz), 24 VCC (power)

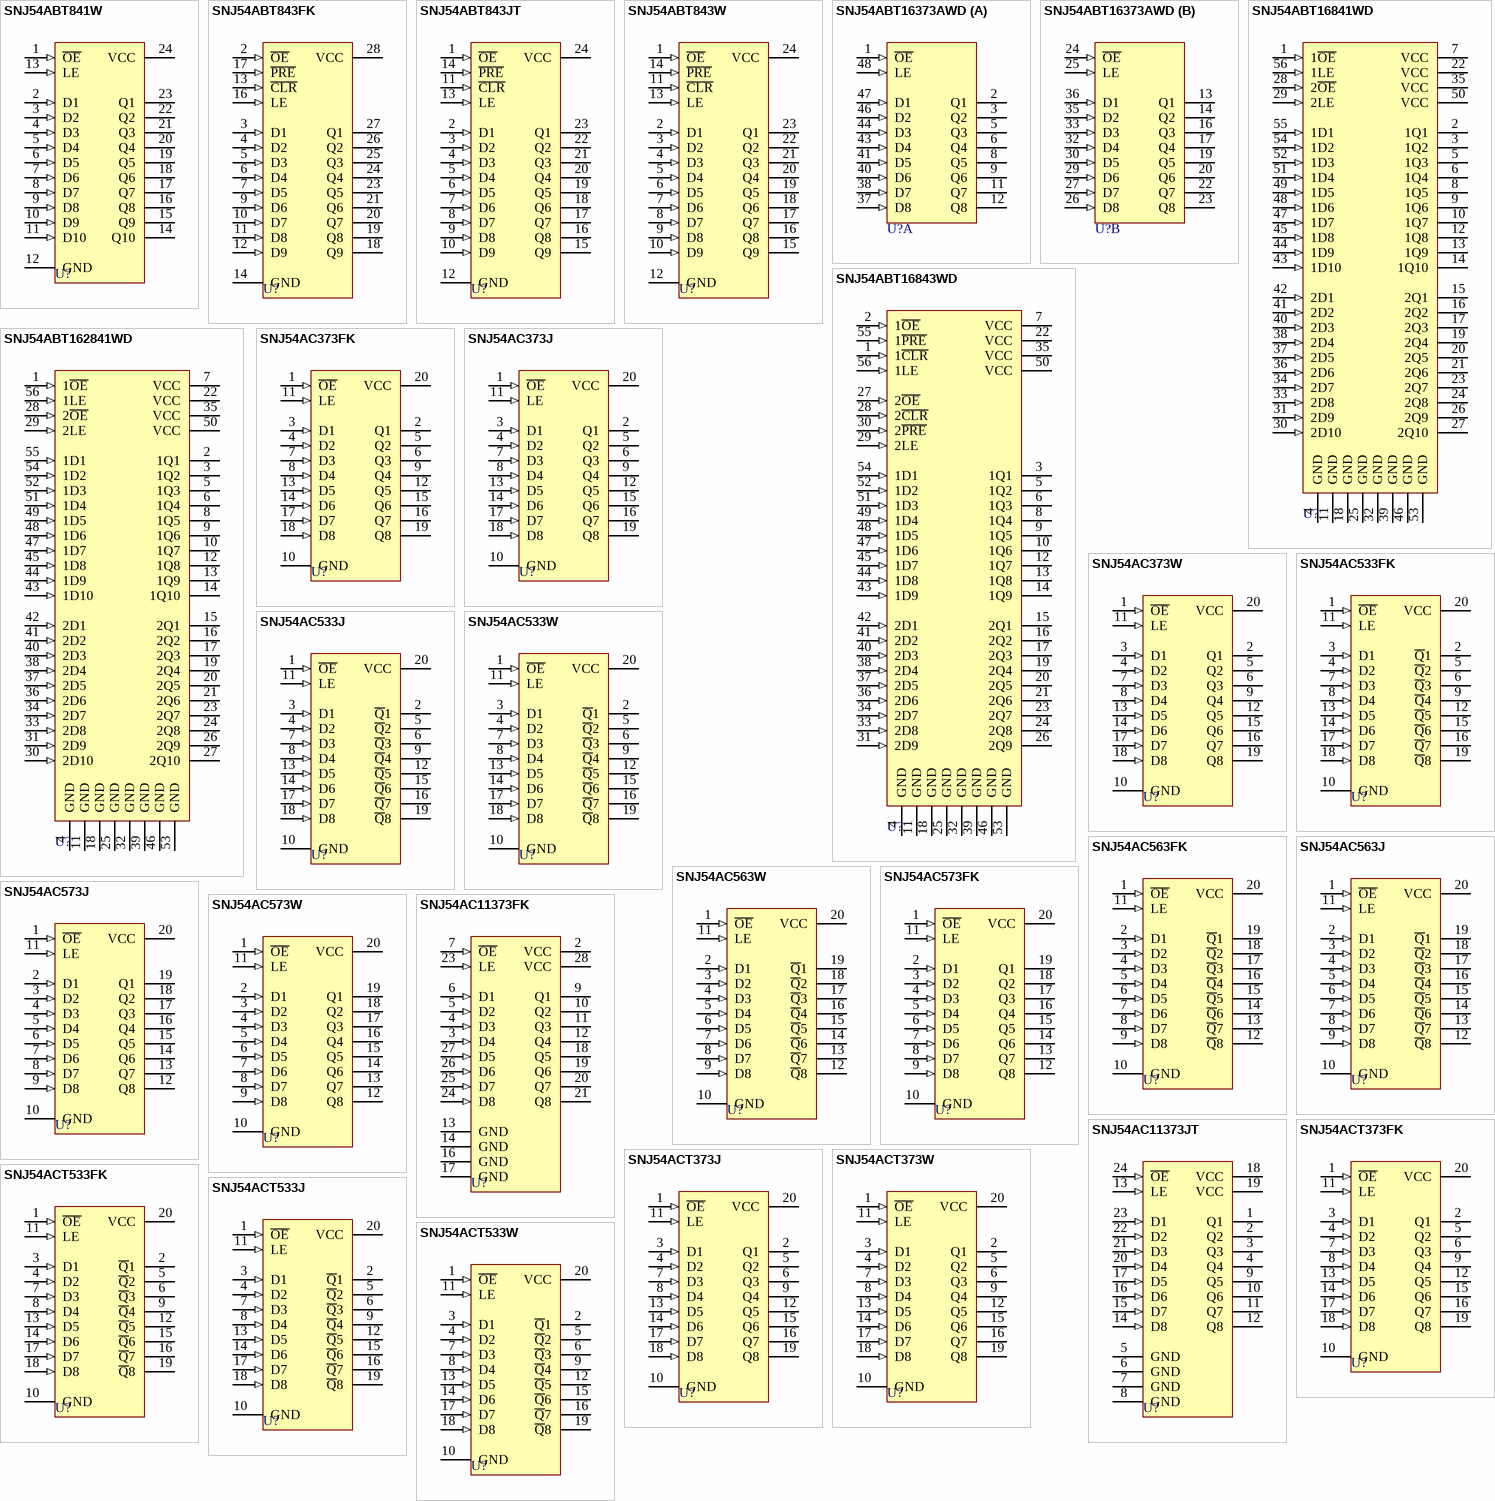
[diagram p21: symbols SNJ54ABT841W to SNJ54ACT533W]

## SNJ54ABT841W
designator U?
10-Bit Bus-Interface D-Type Latch with 3-State Outputs; Published: 8-Jun-2000; LatestRevisionDate: 04-Mar-2005; LatestRevisionNote: Stylized 3D Model Added.; DatasheetVersion: May-1997; PackageVersion: Oct-1994; PackageReference: W024; Publisher: Altium Limited; PackageDescription: DFP; 24 Leads; Body 16.3 x 9.5 mm (LxW max); Pitch 1.27 mm; Code_JEDEC: MO-070-AD; ComponentLink1Description: Manufacturer Link; ComponentLink1URL: http://www.ti.com/; ComponentLink2Description: Datasheet; ComponentLink2URL: http://www-s.ti.com/sc/ds/sn74abt841a.pdf
footprint W024 (DFP; 24 Leads; Body 16.3 x 9.5 mm (LxW max); Pitch 1.27 mm)
3D model W024 (DFP; 24 Leads; Body 16.3 x 9.5 mm (LxW max); Pitch 1.27 mm)
signal-integrity model SNJ54ABT841W
pins: 1 ~{OE} (in), 2 D1 (in), 3 D2 (in), 4 D3 (in), 5 D4 (in), 6 D5 (in), 7 D6 (in), 8 D7 (in), 9 D8 (in), 10 D9 (in), 11 D10 (in), 12 GND (power), 13 LE (in), 14 Q10 (hiz), 15 Q9 (hiz), 16 Q8 (hiz), 17 Q7 (hiz), 18 Q6 (hiz), 19 Q5 (hiz), 20 Q4 (hiz), 21 Q3 (hiz), 22 Q2 (hiz), 23 Q1 (hiz), 24 VCC (power)

## SNJ54ABT843FK
designator U?
9-Bit Bus-Interface D-Type Latch with 3-State Outputs; Note: Pins No 1,8,15 and 22 are Not Connected; Published: 8-Jun-2000; LatestRevisionDate: 17-Jul-2002; LatestRevisionNote: Re-released for DXP Platform.; DatasheetVersion: May-1997; PackageVersion: 1998; PackageReference: FK028; Publisher: Altium Limited; PackageDescription: Leadless Chip Carrier; 28 Terminals; Body 11.4 x 11.4 mm; ComponentLink1Description: Manufacturer Link; ComponentLink1URL: http://www.ti.com/; ComponentLink2Description: Datasheet; ComponentLink2URL: http://www-s.ti.com/sc/ds/sn74abt843.pdf
footprint FK028 (Leadless Chip Carrier; 28 Terminals; Body 11.4 x 11.4 mm)
signal-integrity model SNJ54ABT843FK
pins: 2 ~{OE} (in), 3 D1 (in), 4 D2 (in), 5 D3 (in), 6 D4 (in), 7 D5 (in), 9 D6 (in), 10 D7 (in), 11 D8 (in), 12 D9 (in), 13 ~{CLR} (in), 14 GND (power), 16 LE (in), 17 ~{PRE} (in), 18 Q9 (hiz), 19 Q8 (hiz), 20 Q7 (hiz), 21 Q6 (hiz), 23 Q5 (hiz), 24 Q4 (hiz), 25 Q3 (hiz), 26 Q2 (hiz), 27 Q1 (hiz), 28 VCC (power)

## SNJ54ABT843JT
designator U?
9-Bit Bus-Interface D-Type Latch with 3-State Outputs; Published: 8-Jun-2000; LatestRevisionDate: 04-Mar-2005; LatestRevisionNote: Stylized 3D Model Added.; DatasheetVersion: May-1997; PackageVersion: Jan-1997; PackageReference: JT024; Publisher: Altium Limited; PackageDescription: DIP; 24 Leads; Row Spacing 7.62 mm; Pitch 2.54 mm; Code_JEDEC: MS-001-AF; ComponentLink1Description: Manufacturer Link; ComponentLink1URL: http://www.ti.com/; ComponentLink2Description: Datasheet; ComponentLink2URL: http://www-s.ti.com/sc/ds/sn74abt843.pdf
footprint JT024 (DIP; 24 Leads; Row Spacing 7.62 mm; Pitch 2.54 mm)
3D model JT024 (DIP; 24 Leads; Row Spacing 7.62 mm; Pitch 2.54 mm)
signal-integrity model SNJ54ABT843JT
pins: 1 ~{OE} (in), 2 D1 (in), 3 D2 (in), 4 D3 (in), 5 D4 (in), 6 D5 (in), 7 D6 (in), 8 D7 (in), 9 D8 (in), 10 D9 (in), 11 ~{CLR} (in), 12 GND (power), 13 LE (in), 14 ~{PRE} (in), 15 Q9 (hiz), 16 Q8 (hiz), 17 Q7 (hiz), 18 Q6 (hiz), 19 Q5 (hiz), 20 Q4 (hiz), 21 Q3 (hiz), 22 Q2 (hiz), 23 Q1 (hiz), 24 VCC (power)

## SNJ54ABT843W
designator U?
9-Bit Bus-Interface D-Type Latch with 3-State Outputs; Published: 8-Jun-2000; LatestRevisionDate: 04-Mar-2005; LatestRevisionNote: Stylized 3D Model Added.; DatasheetVersion: May-1997; PackageVersion: Oct-1994; PackageReference: W024; Publisher: Altium Limited; PackageDescription: DFP; 24 Leads; Body 16.3 x 9.5 mm (LxW max); Pitch 1.27 mm; Code_JEDEC: MO-070-AD; ComponentLink1Description: Manufacturer Link; ComponentLink1URL: http://www.ti.com/; ComponentLink2Description: Datasheet; ComponentLink2URL: http://www-s.ti.com/sc/ds/sn74abt843.pdf
footprint W024 (DFP; 24 Leads; Body 16.3 x 9.5 mm (LxW max); Pitch 1.27 mm)
3D model W024 (DFP; 24 Leads; Body 16.3 x 9.5 mm (LxW max); Pitch 1.27 mm)
signal-integrity model SNJ54ABT843W
pins: 1 ~{OE} (in), 2 D1 (in), 3 D2 (in), 4 D3 (in), 5 D4 (in), 6 D5 (in), 7 D6 (in), 8 D7 (in), 9 D8 (in), 10 D9 (in), 11 ~{CLR} (in), 12 GND (power), 13 LE (in), 14 ~{PRE} (in), 15 Q9 (hiz), 16 Q8 (hiz), 17 Q7 (hiz), 18 Q6 (hiz), 19 Q5 (hiz), 20 Q4 (hiz), 21 Q3 (hiz), 22 Q2 (hiz), 23 Q1 (hiz), 24 VCC (power)

## SNJ54ABT16373AWD
designator U?
16-Bit Transparent D-Type Latches with 3-State Outputs; Published: 8-Jun-2000; LatestRevisionDate: 04-Mar-2005; LatestRevisionNote: Stylized 3D Model Added.; DatasheetVersion: May-1997; PackageVersion: Jan-1998; PackageReference: WD048; Publisher: Altium Limited; PackageDescription: DFP; 48 Leads; Body 16.3 x 9.9 mm (LxW max); Pitch 0.635 mm; Code_JEDEC: MO-146-AA; ComponentLink1Description: Manufacturer Link; ComponentLink1URL: http://www.ti.com/; ComponentLink2Description: Datasheet; ComponentLink2URL: http://www-s.ti.com/sc/ds/sn74abt16373a.pdf
footprint WD048 (DFP; 48 Leads; Body 16.3 x 9.9 mm (LxW max); Pitch 0.635 mm)
3D model WD048 (DFP; 48 Leads; Body 16.3 x 9.9 mm (LxW max); Pitch 0.635 mm)
signal-integrity model SNJ54ABT16373AWD
pins on every part: 4 GND (power) hidden to GND, 7 VCC (power) hidden to VCC, 10 GND (power) hidden to GND, 15 GND (power) hidden to GND, 18 VCC (power) hidden to VCC, 21 GND (power) hidden to GND, 28 GND (power) hidden to GND, 31 VCC (power) hidden to VCC, 34 GND (power) hidden to GND, 39 GND (power) hidden to GND, 42 VCC (power) hidden to VCC, 45 GND (power) hidden to GND
part A pins: 1 ~{OE} (in), 2 Q1 (hiz), 3 Q2 (hiz), 5 Q3 (hiz), 6 Q4 (hiz), 8 Q5 (hiz), 9 Q6 (hiz), 11 Q7 (hiz), 12 Q8 (hiz), 37 D8 (in), 38 D7 (in), 40 D6 (in), 41 D5 (in), 43 D4 (in), 44 D3 (in), 46 D2 (in), 47 D1 (in), 48 LE (in)
part B pins: 13 Q1 (hiz), 14 Q2 (hiz), 16 Q3 (hiz), 17 Q4 (hiz), 19 Q5 (hiz), 20 Q6 (hiz), 22 Q7 (hiz), 23 Q8 (hiz), 24 ~{OE} (in), 25 LE (in), 26 D8 (in), 27 D7 (in), 29 D6 (in), 30 D5 (in), 32 D4 (in), 33 D3 (in), 35 D2 (in), 36 D1 (in)

## SNJ54ABT16841WD
designator U?
20-Bit Bus-Interface D-Type Latches with 3-State Outputs; Published: 8-Jun-2000; LatestRevisionDate: 04-Mar-2005; LatestRevisionNote: Stylized 3D Model Added.; DatasheetVersion: May-1997; PackageVersion: Jan-1998; PackageReference: WD056; Publisher: Altium Limited; PackageDescription: DFP; 56 Leads; Body 18.8 x 9.9 mm (LxW max); Pitch 0.635 mm; Code_JEDEC: MO-146-AB; ComponentLink1Description: Manufacturer Link; ComponentLink1URL: http://www.ti.com/; ComponentLink2Description: Datasheet; ComponentLink2URL: http://www-s.ti.com/sc/ds/sn74abt16841.pdf
footprint WD056 (DFP; 56 Leads; Body 18.8 x 9.9 mm (LxW max); Pitch 0.635 mm)
3D model WD056 (DFP; 56 Leads; Body 18.8 x 9.9 mm (LxW max); Pitch 0.635 mm)
signal-integrity model SNJ54ABT16841WD
pins: 1 1~{OE} (in), 2 1Q1 (hiz), 3 1Q2 (hiz), 4 GND (power), 5 1Q3 (hiz), 6 1Q4 (hiz), 7 VCC (power), 8 1Q5 (hiz), 9 1Q6 (hiz), 10 1Q7 (hiz), 11 GND (power), 12 1Q8 (hiz), 13 1Q9 (hiz), 14 1Q10 (hiz), 15 2Q1 (hiz), 16 2Q2 (hiz), 17 2Q3 (hiz), 18 GND (power), 19 2Q4 (hiz), 20 2Q5 (hiz), 21 2Q6 (hiz), 22 VCC (power), 23 2Q7 (hiz), 24 2Q8 (hiz), 25 GND (power), 26 2Q9 (hiz), 27 2Q10 (hiz), 28 2~{OE} (in), 29 2LE (in), 30 2D10 (in), 31 2D9 (in), 32 GND (power), 33 2D8 (in), 34 2D7 (in), 35 VCC (power), 36 2D6 (in), 37 2D5 (in), 38 2D4 (in), 39 GND (power), 40 2D3 (in), 41 2D2 (in), 42 2D1 (in), 43 1D10 (in), 44 1D9 (in), 45 1D8 (in), 46 GND (power), 47 1D7 (in), 48 1D6 (in), 49 1D5 (in), 50 VCC (power), 51 1D4 (in), 52 1D3 (in), 53 GND (power), 54 1D2 (in), 55 1D1 (in), 56 1LE (in)

## SNJ54ABT16843WD
designator U?
18-Bit Bus-Interface D-Type Latches with 3-State Outputs; Published: 8-Jun-2000; LatestRevisionDate: 04-Mar-2005; LatestRevisionNote: Stylized 3D Model Added.; DatasheetVersion: May-1997; PackageVersion: Jan-1998; PackageReference: WD056; Publisher: Altium Limited; PackageDescription: DFP; 56 Leads; Body 18.8 x 9.9 mm (LxW max); Pitch 0.635 mm; Code_JEDEC: MO-146-AB; ComponentLink1Description: Manufacturer Link; ComponentLink1URL: http://www.ti.com/
footprint WD056 (DFP; 56 Leads; Body 18.8 x 9.9 mm (LxW max); Pitch 0.635 mm)
3D model WD056 (DFP; 56 Leads; Body 18.8 x 9.9 mm (LxW max); Pitch 0.635 mm)
signal-integrity model SNJ54ABT16843WD
pins: 1 1~{CLR} (in), 2 1~{OE} (in), 3 1Q1 (hiz), 4 GND (power), 5 1Q2 (hiz), 6 1Q3 (hiz), 7 VCC (power), 8 1Q4 (hiz), 9 1Q5 (hiz), 10 1Q6 (hiz), 11 GND (power), 12 1Q7 (hiz), 13 1Q8 (hiz), 14 1Q9 (hiz), 15 2Q1 (hiz), 16 2Q2 (hiz), 17 2Q3 (hiz), 18 GND (power), 19 2Q4 (hiz), 20 2Q5 (hiz), 21 2Q6 (hiz), 22 VCC (power), 23 2Q7 (hiz), 24 2Q8 (hiz), 25 GND (power), 26 2Q9 (hiz), 27 2~{OE} (in), 28 2~{CLR} (in), 29 2LE (in), 30 2~{PRE} (in), 31 2D9 (in), 32 GND (power), 33 2D8 (in), 34 2D7 (in), 35 VCC (power), 36 2D6 (in), 37 2D5 (in), 38 2D4 (in), 39 GND (power), 40 2D3 (in), 41 2D2 (in), 42 2D1 (in), 43 1D9 (in), 44 1D8 (in), 45 1D7 (in), 46 GND (power), 47 1D6 (in), 48 1D5 (in), 49 1D4 (in), 50 VCC (power), 51 1D3 (in), 52 1D2 (in), 53 GND (power), 54 1D1 (in), 55 1~{PRE} (in), 56 1LE (in)

## SNJ54ABT162841WD
designator U?
20-Bit Bus-Interface D-Type Latches with 3-State Outputs; Published: 8-Jun-2000; LatestRevisionDate: 04-Mar-2005; LatestRevisionNote: Stylized 3D Model Added.; DatasheetVersion: May-1997; PackageVersion: Jan-1998; PackageReference: WD056; Publisher: Altium Limited; PackageDescription: DFP; 56 Leads; Body 18.8 x 9.9 mm (LxW max); Pitch 0.635 mm; Code_JEDEC: MO-146-AB; ComponentLink1Description: Manufacturer Link; ComponentLink1URL: http://www.ti.com/; ComponentLink2Description: Datasheet; ComponentLink2URL: http://www-s.ti.com/sc/ds/sn74abt162841.pdf
footprint WD056 (DFP; 56 Leads; Body 18.8 x 9.9 mm (LxW max); Pitch 0.635 mm)
3D model WD056 (DFP; 56 Leads; Body 18.8 x 9.9 mm (LxW max); Pitch 0.635 mm)
signal-integrity model SNJ54ABT162841WD
pins: 1 1~{OE} (in), 2 1Q1 (hiz), 3 1Q2 (hiz), 4 GND (power), 5 1Q3 (hiz), 6 1Q4 (hiz), 7 VCC (power), 8 1Q5 (hiz), 9 1Q6 (hiz), 10 1Q7 (hiz), 11 GND (power), 12 1Q8 (hiz), 13 1Q9 (hiz), 14 1Q10 (hiz), 15 2Q1 (hiz), 16 2Q2 (hiz), 17 2Q3 (hiz), 18 GND (power), 19 2Q4 (hiz), 20 2Q5 (hiz), 21 2Q6 (hiz), 22 VCC (power), 23 2Q7 (hiz), 24 2Q8 (hiz), 25 GND (power), 26 2Q9 (hiz), 27 2Q10 (hiz), 28 2~{OE} (in), 29 2LE (in), 30 2D10 (in), 31 2D9 (in), 32 GND (power), 33 2D8 (in), 34 2D7 (in), 35 VCC (power), 36 2D6 (in), 37 2D5 (in), 38 2D4 (in), 39 GND (power), 40 2D3 (in), 41 2D2 (in), 42 2D1 (in), 43 1D10 (in), 44 1D9 (in), 45 1D8 (in), 46 GND (power), 47 1D7 (in), 48 1D6 (in), 49 1D5 (in), 50 VCC (power), 51 1D4 (in), 52 1D3 (in), 53 GND (power), 54 1D2 (in), 55 1D1 (in), 56 1LE (in)

## SNJ54AC373FK
designator U?
Octal D-Type Transparent Latch with 3-State Outputs; Published: 8-Jun-2000; LatestRevisionDate: 17-Jul-2002; LatestRevisionNote: Re-released for DXP Platform.; DatasheetVersion: Jun-1996; PackageVersion: 1998; PackageReference: FK020; Publisher: Altium Limited; PackageDescription: Leadless Chip Carrier; 20 Terminals; Body 8.9 x 8.9 mm; ComponentLink1Description: Manufacturer Link; ComponentLink1URL: http://www.ti.com/; ComponentLink2Description: Datasheet; ComponentLink2URL: http://www-s.ti.com/sc/ds/sn74ac373.pdf
footprint FK020 (Leadless Chip Carrier; 20 Terminals; Body 8.9 x 8.9 mm)
signal-integrity model SNJ54AC373FK
pins: 1 ~{OE} (in), 2 Q1 (hiz), 3 D1 (in), 4 D2 (in), 5 Q2 (hiz), 6 Q3 (hiz), 7 D3 (in), 8 D4 (in), 9 Q4 (hiz), 10 GND (power), 11 LE (in), 12 Q5 (hiz), 13 D5 (in), 14 D6 (in), 15 Q6 (hiz), 16 Q7 (hiz), 17 D7 (in), 18 D8 (in), 19 Q8 (hiz), 20 VCC (power)

## SNJ54AC373J
designator U?
Octal D-Type Transparent Latch with 3-State Outputs; Published: 8-Jun-2000; LatestRevisionDate: 04-Mar-2005; LatestRevisionNote: Stylized 3D Model Added.; DatasheetVersion: Jun-1996; PackageVersion: Jun-1999; PackageReference: J020; Publisher: Altium Limited; PackageDescription: DIP; 20 Leads; Row Spacing 7.62 mm; Pitch 2.54 mm; ComponentLink1Description: Manufacturer Link; ComponentLink1URL: http://www.ti.com/; ComponentLink2Description: Datasheet; ComponentLink2URL: http://www-s.ti.com/sc/ds/sn74ac373.pdf
footprint J020 (DIP; 20 Leads; Row Spacing 7.62 mm; Pitch 2.54 mm)
3D model J020 (DIP; 20 Leads; Row Spacing 7.62 mm; Pitch 2.54 mm)
signal-integrity model SNJ54AC373J
pins: 1 ~{OE} (in), 2 Q1 (hiz), 3 D1 (in), 4 D2 (in), 5 Q2 (hiz), 6 Q3 (hiz), 7 D3 (in), 8 D4 (in), 9 Q4 (hiz), 10 GND (power), 11 LE (in), 12 Q5 (hiz), 13 D5 (in), 14 D6 (in), 15 Q6 (hiz), 16 Q7 (hiz), 17 D7 (in), 18 D8 (in), 19 Q8 (hiz), 20 VCC (power)

## SNJ54AC373W
designator U?
Octal D-Type Transparent Latch with 3-State Outputs; Published: 8-Jun-2000; LatestRevisionDate: 04-Mar-2005; LatestRevisionNote: Stylized 3D Model Added.; DatasheetVersion: Jun-1996; PackageVersion: Jan-1995; PackageReference: W020; Publisher: Altium Limited; PackageDescription: DFP; 20 Leads; Body 13.7 x 7.6 mm (LxW max); Pitch 1.27 mm; ComponentLink1Description: Manufacturer Link; ComponentLink1URL: http://www.ti.com/; ComponentLink2Description: Datasheet; ComponentLink2URL: http://www-s.ti.com/sc/ds/sn74ac373.pdf
footprint W020 (DFP; 20 Leads; Body 13.7 x 7.6 mm (LxW max); Pitch 1.27 mm)
3D model W020 (DFP; 20 Leads; Body 13.7 x 7.6 mm (LxW max); Pitch 1.27 mm)
signal-integrity model SNJ54AC373W
pins: 1 ~{OE} (in), 2 Q1 (hiz), 3 D1 (in), 4 D2 (in), 5 Q2 (hiz), 6 Q3 (hiz), 7 D3 (in), 8 D4 (in), 9 Q4 (hiz), 10 GND (power), 11 LE (in), 12 Q5 (hiz), 13 D5 (in), 14 D6 (in), 15 Q6 (hiz), 16 Q7 (hiz), 17 D7 (in), 18 D8 (in), 19 Q8 (hiz), 20 VCC (power)

## SNJ54AC533FK
designator U?
Octal Transparent D-Type Latch with 3-State Outputs; Published: 8-Jun-2000; LatestRevisionDate: 17-Jul-2002; LatestRevisionNote: Re-released for DXP Platform.; DatasheetVersion: May-1996; PackageVersion: 1998; PackageReference: FK020; Publisher: Altium Limited; PackageDescription: Leadless Chip Carrier; 20 Terminals; Body 8.9 x 8.9 mm; ComponentLink1Description: Manufacturer Link; ComponentLink1URL: http://www.ti.com/; ComponentLink2Description: Datasheet; ComponentLink2URL: http://www-s.ti.com/sc/ds/sn74ac533.pdf
footprint FK020 (Leadless Chip Carrier; 20 Terminals; Body 8.9 x 8.9 mm)
signal-integrity model SNJ54AC533FK
pins: 1 ~{OE} (in), 2 ~{Q}1 (hiz), 3 D1 (in), 4 D2 (in), 5 ~{Q}2 (hiz), 6 ~{Q}3 (hiz), 7 D3 (in), 8 D4 (in), 9 ~{Q}4 (hiz), 10 GND (power), 11 LE (in), 12 ~{Q}5 (hiz), 13 D5 (in), 14 D6 (in), 15 ~{Q}6 (hiz), 16 ~{Q}7 (hiz), 17 D7 (in), 18 D8 (in), 19 ~{Q}8 (hiz), 20 VCC (power)

## SNJ54AC533J
designator U?
Octal Transparent D-Type Latch with 3-State Outputs; Published: 8-Jun-2000; LatestRevisionDate: 04-Mar-2005; LatestRevisionNote: Stylized 3D Model Added.; DatasheetVersion: May-1996; PackageVersion: Jun-1999; PackageReference: J020; Publisher: Altium Limited; PackageDescription: DIP; 20 Leads; Row Spacing 7.62 mm; Pitch 2.54 mm; ComponentLink1Description: Manufacturer Link; ComponentLink1URL: http://www.ti.com/; ComponentLink2Description: Datasheet; ComponentLink2URL: http://www-s.ti.com/sc/ds/sn74ac533.pdf
footprint J020 (DIP; 20 Leads; Row Spacing 7.62 mm; Pitch 2.54 mm)
3D model J020 (DIP; 20 Leads; Row Spacing 7.62 mm; Pitch 2.54 mm)
signal-integrity model SNJ54AC533J
pins: 1 ~{OE} (in), 2 ~{Q}1 (hiz), 3 D1 (in), 4 D2 (in), 5 ~{Q}2 (hiz), 6 ~{Q}3 (hiz), 7 D3 (in), 8 D4 (in), 9 ~{Q}4 (hiz), 10 GND (power), 11 LE (in), 12 ~{Q}5 (hiz), 13 D5 (in), 14 D6 (in), 15 ~{Q}6 (hiz), 16 ~{Q}7 (hiz), 17 D7 (in), 18 D8 (in), 19 ~{Q}8 (hiz), 20 VCC (power)

## SNJ54AC533W
designator U?
Octal Transparent D-Type Latch with 3-State Outputs; Published: 8-Jun-2000; LatestRevisionDate: 04-Mar-2005; LatestRevisionNote: Stylized 3D Model Added.; DatasheetVersion: May-1996; PackageVersion: Jan-1995; PackageReference: W020; Publisher: Altium Limited; PackageDescription: DFP; 20 Leads; Body 13.7 x 7.6 mm (LxW max); Pitch 1.27 mm; ComponentLink1Description: Manufacturer Link; ComponentLink1URL: http://www.ti.com/; ComponentLink2Description: Datasheet; ComponentLink2URL: http://www-s.ti.com/sc/ds/sn74ac533.pdf
footprint W020 (DFP; 20 Leads; Body 13.7 x 7.6 mm (LxW max); Pitch 1.27 mm)
3D model W020 (DFP; 20 Leads; Body 13.7 x 7.6 mm (LxW max); Pitch 1.27 mm)
signal-integrity model SNJ54AC533W
pins: 1 ~{OE} (in), 2 ~{Q}1 (hiz), 3 D1 (in), 4 D2 (in), 5 ~{Q}2 (hiz), 6 ~{Q}3 (hiz), 7 D3 (in), 8 D4 (in), 9 ~{Q}4 (hiz), 10 GND (power), 11 LE (in), 12 ~{Q}5 (hiz), 13 D5 (in), 14 D6 (in), 15 ~{Q}6 (hiz), 16 ~{Q}7 (hiz), 17 D7 (in), 18 D8 (in), 19 ~{Q}8 (hiz), 20 VCC (power)